# EAGLE library part BTT6200-4ESA (library mosfet-infineon)
BTT6200-4ESA SOP65P600X115-25N-1 Smart High-Side Power Switch, Quad Channel
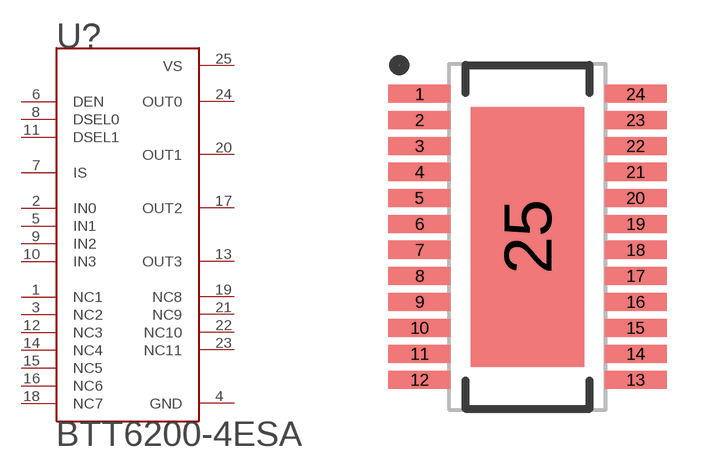
[diagram p25: symbol with the pads of SOP65P600X115-25N-1; footprint SOP65P600X115-25N-1]

Designator prefix U?

## BTT6200-4ESA  [SOP65P600X115-25N-1]
1  NC1  pas
2  IN0  in
3  NC2  pas
4  GND  pwr
5  IN1  in
6  DEN  in
7  IS  out
8  DSEL0  in
9  IN2  in
10  IN3  in
11  DSEL1  in
12  NC3  pas
13  OUT3  out
14  NC4  pas
15  NC5  pas
16  NC6  pas
17  OUT2  out
18  NC7  pas
19  NC8  pas
20  OUT1  out
21  NC9  pas
22  NC10  pas
23  NC11  pas
24  OUT0  out
25  VS  pwr

## Footprint SOP65P600X115-25N-1 (pad centres in mm)
Original name SOP65P600X115-25N-1 Max Component Height - 1.15mm
smd 1.55 x 0.45: 1 -2.7,3.575; 2 -2.7,2.925; 3 -2.7,2.275; 4 -2.7,1.625; 5 -2.7,0.975; 6 -2.7,0.325; 7 -2.7,-0.325; 8 -2.7,-0.975; 9 -2.7,-1.625; 10 -2.7,-2.275; 11 -2.7,-2.925; 12 -2.7,-3.575; 13 2.7,-3.575; 14 2.7,-2.925; 15 2.7,-2.275; 16 2.7,-1.625; 17 2.7,-0.975; 18 2.7,-0.325; 19 2.7,0.325; 20 2.7,0.975; 21 2.7,1.625; 22 2.7,2.275; 23 2.7,2.925; 24 2.7,3.575
smd 2.85 x 6.5: 25 0,0